# Altium schematic symbol library S_TACTSWITCH_SPST_2PIN.Schlib: 1 symbol
Pins are listed as number, name and electrical type; pins without a type are passive.

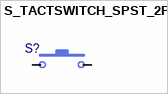
[diagram p0: symbol S_TACTSWITCH_SPST_2PIN]

## S_TACTSWITCH_SPST_2PIN
designator S?  (value not drawn)
pins: 1, 2